# Altium schematic symbol library TIDA00792E2_AFE.SCHLIB: 95 symbols (part 2 of 2)
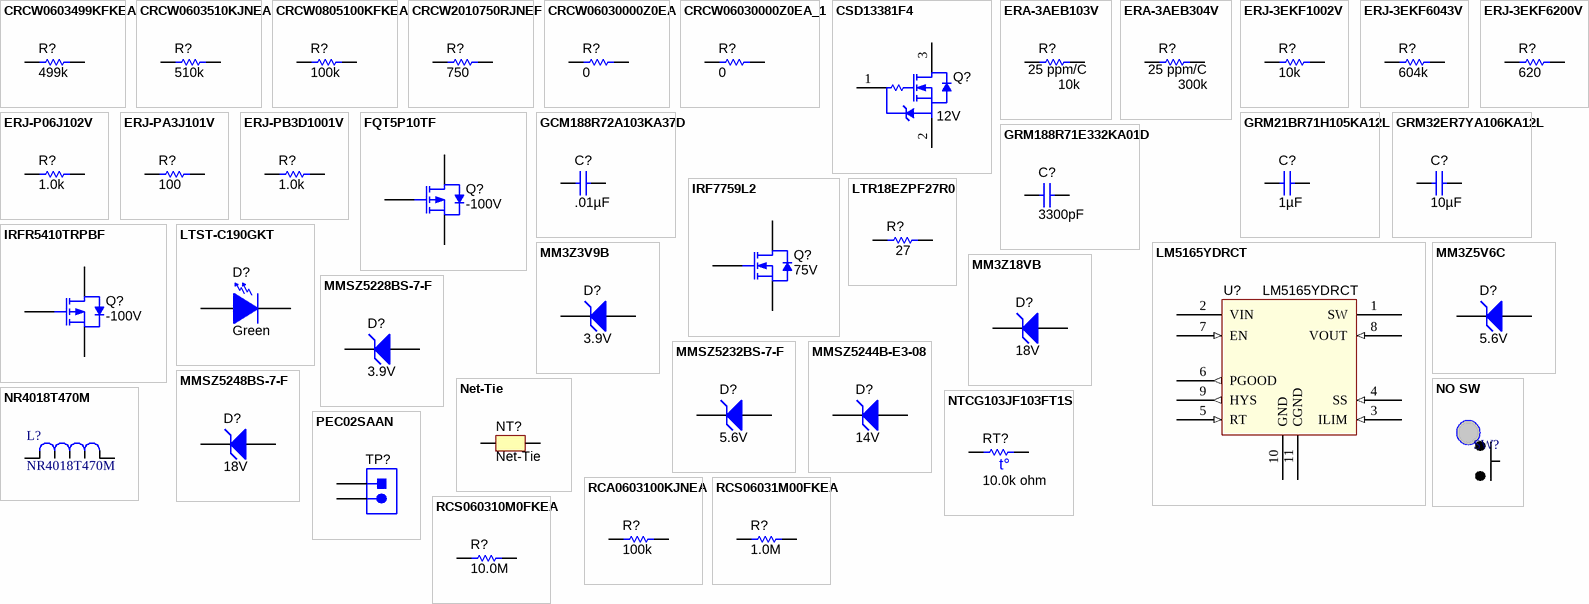
[diagram p3: symbols CRCW0603499KFKEA to RCS060310M0FKEA]

## ERJ-3EKF6043V
designator R?  ValueDisplayed: 604k  (hidden comment: ERJ-3EKF6043V)
RES SMD 604K OHM 1% 1/10W 0603; Manufacturer: Panasonic Electronic Components; CompType: Resistor; Res_ohm: 604000; Value_Code: 1k00; Tolerance_%: .1; Value2: .1W; VDC_V: 400; TempCo: 100 ppm/C; SizeArea_mm2: 1.28; SizeX_mm: 1.6; SizeY_mm: .8; SizeZ_mm: .55; EIA_Code: E24; U/M: EA; AEC Category: Q200; AEC Qualified: Y; AEC Grade: 0; SymbolVersion: 2009-05-29; Value: 604k; PartNumber: ERJ-3EKF6043V; PackageReference: 0603; RoHS: Y; Value1: 1%; Power_W: .1; MountType: SMT; Technology: Thick Film; Published: 2008-06-26; Publisher: Texas Instruments; LatestRevisionDate: 2016-06-10; ComponentLink1Description: Datasheet link; ComponentLink1URL: https://industrial.panasonic.com/cdbs/www-data/pdf/RDA0000/AOA0000C304.pdf; Supplier 1: Mouser; Supplier 2: Digi-Key; Supplier Part Number 1: 667-ERJ-3EKF6043V; Supplier Part Number 2: P604KHDKR-ND
signal-integrity model Resistor
simulation model Resistor
footprint RES 0603/1608 (Chip Resistor, 2-Leads, Body 1.60x0.80mm, IPC Medium Density)
pins: 1, 2

## ERJ-3EKF6200V
designator R?  ValueDisplayed: 620  (hidden comment: ERJ-3EKF6200V)
RES SMD 620 OHM 1% 1/10W 0603; Manufacturer: Panasonic Electronic Components; CompType: Resistor; Value: 620; Value_Code: 1k00; Tolerance_%: .1; Value2: .1W; VDC_V: 400; TempCo: 100 ppm/C; SizeArea_mm2: 1.28; SizeX_mm: 1.6; SizeY_mm: .8; SizeZ_mm: .55; EIA_Code: E24; U/M: EA; AEC Category: Q200; AEC Qualified: Y; AEC Grade: 0; SymbolVersion: 2009-05-29; PartNumber: ERJ-3EKF6200V; PackageReference: 0603; RoHS: Y; Res_ohm: 620; Value1: 1%; Power_W: .1; MountType: SMT; Technology: Thick Film; Published: 2008-06-26; Publisher: Texas Instruments; LatestRevisionDate: 2016-06-10; ComponentLink1Description: Datasheet link; ComponentLink1URL: https://industrial.panasonic.com/cdbs/www-data/pdf/RDA0000/AOA0000C304.pdf; Supplier 1: Mouser; Supplier 2: Digi-Key; Supplier Part Number 1: 667-ERJ-3EKF6200V; Supplier Part Number 2: P620HDKR-ND
signal-integrity model Resistor
simulation model Resistor
footprint RES 0603/1608 (Chip Resistor, 2-Leads, Body 1.60x0.80mm, IPC Medium Density)
pins: 1, 2

## ERJ-P06J102V
designator R?  ValueDisplayed: 1.0k  (hidden comment: ERJ-P06J102V)
RES SMD 1K OHM 0.5% 1/2W 0805; Manufacturer: Panasonic Electronic Components; CompType: Resistor; Value: 1.0k; Res_ohm: 1000; Value_Code: 1k00; Tolerance_%: 5; Value1: 5%; Power_W: .5W; VDC_V: 400; TempCo: 200 ppm/C; SizeArea_mm2: 2.5; SizeX_mm: 2; SizeY_mm: 1.25; SizeZ_mm: .7; U/M: EA; AEC Category: Q200; AEC Qualified: Y; AEC Grade: 0; SymbolVersion: 2009-05-29; PartNumber: ERJ-P06J102V; PackageReference: 0805; RoHS: Y; Value2: .5W; MountType: SMT; Technology: Thick Film; Published: 2008-06-26; Publisher: Texas Instruments; LatestRevisionDate: 2016-06-10; ComponentLink1Description: Datasheet link; ComponentLink1URL: https://industrial.panasonic.com/cdbs/www-data/pdf/RDO0000/AOA0000C331.pdf; Supplier 1: Digi-Key; Supplier Part Number 1: P1.0KADCT-ND
signal-integrity model Resistor
simulation model Resistor
footprint 2010
footprint 2010M
footprint 2010L
pins: 1, 2

## ERJ-PA3J101V
designator R?  value 100  (hidden comment: ERJ-PA3J101V)
RES SMD 100 OHM 5% 1/4W 0603; Manufacturer: Panasonic Electronic Components; CompType: Resistor; Value_Code: 100R; Tolerance_%: 5; Power_W: 0.125; Value2: 0.125W; VDC_V: 150; TempCo: 200 ppm/C; EIA_Code: E96; U/M: EA; SymbolVersion: 2009-05-29; PartNumber: ERJ-PA3J101V; PackageReference: 0603; RoHS: Y; Res_ohm: 100; Value1: 5%; MountType: SMT; Technology: Thick Film; Published: 2008-06-26; Publisher: Texas Instruments; LatestRevisionDate: 2013-01-08; ComponentLink1Description: Datasheet link; ComponentLink1URL: https://media.digikey.com/pdf/Data%20Sheets/Panasonic%20Resistors%20Thermistors%20PDFs/ERJ-PA3_Series_NPI.pdf; Supplier 1: Digi-Key; Supplier Part Number 1: P100BZDKR-ND
signal-integrity model Resistor
simulation model Resistor
footprint RES 0603/1608 (Chip Resistor, 2-Leads, Body 1.60x0.80mm, IPC Medium Density)
footprint 0805
footprint 0805M
footprint 0805L
pins: 1, 2

## ERJ-PB3D1001V
designator R?  ValueDisplayed: 1.0k  (hidden comment: ERJ-PB3D1001V)
RES SMD 1K OHM 0.5% 1/5W 0603; Manufacturer: Panasonic Electronic Components; CompType: Resistor; Value: 1.0k; Res_ohm: 1000; Value_Code: 1k00; Tolerance_%: .5; Power_W: .2W; VDC_V: 400; TempCo: 50 ppm/C; SizeArea_mm2: 1.28; SizeX_mm: 1.6; SizeY_mm: .8; SizeZ_mm: .55; EIA_Code: E24; U/M: EA; AEC Category: Q200; AEC Qualified: Y; AEC Grade: 0; SymbolVersion: 2009-05-29; PartNumber: ERJ-PB3D1001V; PackageReference: 0603; RoHS: Y; Value1: 0.5%; Value2: .2W; MountType: SMT; Technology: Thick Film; Published: 2008-06-26; Publisher: Texas Instruments; LatestRevisionDate: 2016-06-10; ComponentLink1Description: Datasheet link; ComponentLink1URL: https://industrial.panasonic.com/cdbs/www-data/pdf/RDM0000/AOA0000C328.pdf; Supplier 3: Digi-Key; Supplier Part Number 3: P20283CT-ND
signal-integrity model Resistor
simulation model Resistor
footprint RES 0603/1608 (Chip Resistor, 2-Leads, Body 1.60x0.80mm, IPC Medium Density)
pins: 1, 2

## FQT5P10TF
designator Q?  value -100V  (hidden comment: FQT5P10TF)
MOSFET P-CH -100V -1A SOT-223; Manufacturer: Fairchild/ON Semiconductor; Alternate Manufacturer: None; U/M: EA; ChType: P; VdsMax_V: -100; Value1: 1.05 ohm; Rdson45_Ohm: 1.05; Value2: 8.2 nC; QgTyp_nC: 8.2; Vgs_V: -4; IdsMax_A: -1; SymbolVersion: 2008-07-09; PartNumber: FQT5P10TF; PackageReference: SOT-223; CompType: MOSFET; RoHS: Y; MountType: SMT; Published: 2008-06-19; Publisher: Texas Instruments; LatestRevisionDate: 2013-10-21; LatestRevisionNote: Added parts.; ComponentLink1Description: Datasheet link; ComponentLink1URL: https://www.fairchildsemi.com/datasheets/FQ/FQT5P10.pdf; Supplier 1: Digi-Key; Supplier 2: Mouser; Supplier Part Number 1: FQT5P10TFCT-ND; Supplier Part Number 2: 512-FQT5P10TF
footprint SOT223
pins: 1 G, 2 S, 3 D

## GCM188R72A103KA37D
designator C?  ValueDisplayed: .01µF  (hidden comment: GCM188R72A103KA37D)
CAP CER .01μF 10% 100V X7R 0603; Manufacturer: Murata Electronics North America; Polarized: N; CompType: Capacitor; U/M: EA; Cap_F: 0.00000001; Tolerance_%: 10; Value1: Unknown; VDC_V: 100; Value2: 35V; TaMin_C: -55; TaMax_C: 125; Cap_Case: 0603; SizeArea_mm2: 1.28; SizeAreaWB_mm2: 4.68; SizeX_mm: 1.6; SizeY_mm: 0.8; AEC Category: Q200; SymbolVersion: 2008-07-09; Value: .01µF; PartNumber: GCM188R72A103KA37D; PackageReference: 0603; RoHS: Y; MountType: SMT; Technology: Ceramic; TempCo: X7R; SizeZ_mm: 0.8; Published: 2008-06-19; Publisher: Texas Instruments; LatestRevisionDate: 2016-06-14; ComponentLink1Description: Datasheet link; ComponentLink1URL: https://product.tdk.com/info/en/documents/chara_sheet/CGA4J1X7R1V225K125AE.pdf; AEC Qualified: N; AEC Grade: N/A; Supplier 1: Mouser; Supplier 2: Digi-Key; Supplier Part Number 1: 81-GCM188R72A103KA7D; Supplier Part Number 2: 490-4781-6-ND
signal-integrity model Cap
simulation model Cap
footprint CAP 0805/2012 (Chip Capacitor, 2-Leads, Body 2.00x1.20mm, IPC Medium Density)
footprint 0603M
footprint 0603L
footprint 0603_HV
footprint 0603S
pins: 1, 2

## GRM21BR71H105KA12L
designator C?  ValueDisplayed: 1µF  (hidden comment: GRM21BR71H105KA12L)
CAP, CERM, 1 µF, 50 V, +/- 10%, X7R, 0805; Manufacturer: MuRata; Polarized: N; CompType: Capacitor; Value: 1uF; U/M: EA; Cap_F: 0.000001; Tolerance_%: 10; Value1: Unknown; VDC_V: 50; Value2: 50V; TaMin_C: -55; TaMax_C: 125; Cap_Case: 0805; SymbolVersion: 2008-07-09; PartNumber: GRM21BR71H105KA12L; PackageReference: 0805; RoHS: Y; MountType: SMT; Technology: Ceramic; TempCo: X7R; Published: 2008-06-19; Publisher: Texas Instruments; LatestRevisionDate: 2015-04-28; ComponentLink1Description: Datasheet link; ComponentLink1URL: http://search.murata.co.jp/Ceramy/PnsearchViewAction.do?HnOFG=ON&HnNFG=ON&SEL_CNT=50&sLang=en&sKey=GRM21BR71H105KA12L&x=9&y=9&search=startwith; Supplier 1: Digi-Key; Supplier Part Number 1: 490-4736-1-ND; Supplier 2: Mouser; Supplier Part Number 2: 81-GRM21BR71H105KA2L; Supplier 3: Farnell; Supplier Part Number 3: 1735541
signal-integrity model Cap
simulation model Cap
footprint 0805_HV
footprint 0805
footprint 0805M
footprint 0805L
pins: 1, 2

## GRM32ER7YA106KA12L
designator C?  ValueDisplayed: 10µF  (hidden comment: GRM32ER7YA106KA12L)
CAP, CERM, 10 µF, 35 V, +/- 10%, X7R, 1210; Manufacturer: MuRata; Polarized: N; CompType: Capacitor; Value: 10uF; U/M: EA; Cap_F: 0.00001; Tolerance_%: 10; Value1: Unknown; VDC_V: 35; Value2: 35V; TaMin_C: -55; TaMax_C: 125; Cap_Case: 1210; SizeArea_mm2: 8; SizeAreaWB_mm2: 14.7; SizeX_mm: 3.2; SizeY_mm: 2.5; SizeZ_mm: 2.7; AEC Category: Q200; SymbolVersion: 2008-07-09; PartNumber: GRM32ER7YA106KA12L; PackageReference: 1210; RoHS: Y; MountType: SMT; Technology: Ceramic; TempCo: X7R; Published: 2008-06-19; Publisher: Texas Instruments; LatestRevisionDate: 2016-06-14; ComponentLink1Description: Datasheet link; ComponentLink1URL: http://search.murata.co.jp/Ceramy/PnsearchViewAction.do?HnOFG=ON&HnNFG=ON&SEL_CNT=50&sLang=en&sKey=GRM32ER7YA106KA12L&x=9&y=9&search=startwith; Supplier 1: Digi-Key; Supplier Part Number 1: 490-5314-1-ND; Supplier 2: Mouser; Supplier Part Number 2: 81-GRM32ER7YA106KA2L; Supplier 3: Farnell; Supplier Part Number 3: 1735537; AEC Qualified: ?
signal-integrity model Cap
simulation model Cap
footprint 1210_270
footprint 1210_270M
footprint 1210_270L
pins: 1, 2

## GRM188R71E332KA01D
designator C?  ValueDisplayed: 3300pF  (hidden comment: GRM188R71E332KA01D)
CAP, CERM, 3300pF, 25V, +/-10%, X7R, 0603; Manufacturer: MuRata; Polarized: N; CompType: Capacitor; U/M: EA; Cap_F: 0.0000000033; Tolerance_%: 10; Value1: Unknown; VDC_V: 25; TaMin_C: -55; TaMax_C: 125; Cap_Case: 0603; SymbolVersion: 2008-07-09; Value: 3300pF; PartNumber: GRM188R71E332KA01D; PackageReference: 0603; RoHS: Y; Value2: 25V; MountType: SMT; Technology: Ceramic; TempCo: X7R; Published: 2008-06-19; Publisher: Texas Instruments; LatestRevisionDate: 2013-10-27; ComponentLink1Description: Datasheet link; ComponentLink1URL: http://search.murata.co.jp/Ceramy/PnsearchViewAction.do?HnOFG=ON&HnNFG=ON&SEL_CNT=50&sLang=en&sKey=GRM188R71E332KA01D&x=9&y=9&search=startwith; Supplier 1: Digi-Key; Supplier Part Number 1: GRM188R71E332KA01D-ND; Supplier 2: Mouser; Supplier Part Number 2: 81-GRM18R71E332KA01D
signal-integrity model Cap
simulation model Cap
footprint CAP 0603/1608 (Chip Capacitor, 2-Leads, Body 1.60x0.80mm, IPC Medium Density)
footprint 0603M
footprint 0603L
footprint 0603_HV
pins: 1, 2

## IRF7759L2
designator Q?  value 75V  (hidden comment: IRF7759L2)
N-Channel 75V 26A (Ta), 375A (Tc) 3.3W (Ta), 125W (Tc) Surface Mount DIRECTFET L8; Manufacturer: Infineon Technologies; Alternate Manufacturer: None; CompType: MOSFET; U/M: EA; ChType: N; VdsMax_V: 75; Value1: .0018 ohm; Rdson_mOhm: 1.8; Value2: 200 nC; QgTyp_nC: 200; Vgs_V: 20; IdsMax_A: 260; SymbolVersion: 2009-09-19; PartNumber: IRF7759L2; PackageReference: L8; RoHS: Y; MountType: SMT; Published: 2009-09-19; Publisher: Infineon Technologies; LatestRevisionDate: 2009-09-19; LatestRevisionNote: Added parts.; ComponentLink1Description: Datasheet link; ComponentLink1URL: https://www.infineon.com/dgdl/irf7759l2pbf.pdf?fileId=5546d462533600a40153560478171cb0; Supplier 1: Digi-Key; Supplier Part Number 1: IRF7759L2TRPBFCT-ND; Supplier 2: Mouser; Supplier Part Number 2: 942-IRF7759L2TRPBF; Supplier 3: Farnell; Supplier Part Number 3: 91Y4755
footprint DIRECTFET L8
pins: 1 G, 2 S, 3 D

## IRFR5410TRPBF
designator Q?  value -100V  (hidden comment: IRFR5410TRPBF)
MOSFET P-CH 100V 13A DPAK; Manufacturer: Infineon Technologies; Alternate Manufacturer: None; U/M: EA; ChType: P; VdsMax_V: -100; Value1: .205 ohm; Rdson45_Ohm: .205; Value2: 58 nC; QgTyp_nC: 58; Vgs_V: -20; IdsMax_A: -13; SymbolVersion: 2008-07-09; PartNumber: IRFR5410TRPBF; PackageReference: TO-252-3; CompType: MOSFET; RoHS: Y; MountType: SMT; Published: 2008-06-19; Publisher: Texas Instruments; LatestRevisionDate: 2013-10-21; LatestRevisionNote: Added parts.; ComponentLink1Description: Datasheet link; ComponentLink1URL: https://www.infineon.com/dgdl/irfr5410pbf.pdf?fileId=5546d462533600a4015356356f622107; Supplier 1: Digi-Key; Supplier 2: Mouser; Supplier Part Number 1: IRFR5410PBFDKR-ND; Supplier Part Number 2: 942-IRFR5410TRPBF
footprint D-PAK (TO-252-3)
pins: 1 G, 2 S, 3 D

## LM5165YDRCT
designator U?
IC REG BUCK 3.3V 0.15A 10VSON; Manufacturer: Texas Instruments; SymbolCreator: x0208325; U/M: EA; SymbolVersion: 2013-11-18; PartNumber: LM5165YDRCT; PackageReference: 10-VSON; MountType: SMT; ComponentLink1Description: Datasheet Link; ComponentLink1URL: http://www.ti.com/lit/ds/symlink/lm5165.pdf; CompType: IC; RoHS: Y; Publisher: Texas Instruments; LatestRevisionDate: 2016-04-08; Supplier 1: Mouser; Supplier 2: Digi-Key; Supplier Part Number 1: 595-LM5165YDRCT; Supplier Part Number 2: 296-44069-1-ND
pins: 1 SW (power) "Connect to the switching side of the power inductor", 2 VIN (power) "Regulator supply input pin to high-side power MOSFET and internal bias rail LDO", 3 ILIM (in) "Programming pin for current limit", 4 SS (in) "Programming pin for the soft-start time", 5 RT (in) "Mode selection and on-time programming pin for Constant On-Time (COT) control", 6 PGOOD (out) "Power Good output flag pin", 7 EN (in) "Input pin of the precision enable / UVLO comparator", 8 VOUT (in) "Feedback input to voltage regulation loop", 9 HYS (out) "Drain of an internal NFET that is turned off when the EN input is greater than the EN threshold", 10 GND (power), 11 CGND (power) "Center Pad Ground"
1 alternate drawing of the same symbol

## LTR18EZPF27R0
designator R?  ValueDisplayed: 27  (hidden comment: LTR18EZPF27R0)
RES SMD 27 OHM 1% 3/4W 1206 WIDE; Manufacturer: Rohm Semiconductor; CompType: Resistor; Value: 27; Tolerance_%: 1; Power_W: .75; Value2: .75W; VDC_V: 200; TempCo: 200 ppm/C; EIA_Code: E24; U/M: EA; SymbolVersion: 2009-05-29; PartNumber: LTR18EZPF27R0; PackageReference: 1206; RoHS: Y; Value1: 1%; MountType: SMT; Technology: Thick Film; LatestRevisionDate: 2015-04-13; ComponentLink1Description: Datasheet link; ComponentLink1URL: http://www.rohm.com/web/global/datasheet/LTR100JZPD/ltr-e; Supplier 1: Digi-Key; Supplier Part Number 1: RHM27YCT-ND; Published: 2008-06-26; Res_ohm: 27; Value_Code: 27
signal-integrity model Resistor
simulation model Resistor
footprint RES 1206/3216 (Chip Resistor, 2-Leads, Body 3.13x1.55mm, IPC Medium Density)
pins: 1, 2

## LTST-C190GKT
designator D?  value Green  (hidden comment: LTST-C190GKT)
LED, Green, SMD; Manufacturer: Lite-On; Vf_V: 2.1; Value2: 2.1V; Io_A: 0.02; Power_TotalModule: 0.1; Value1: 0.1W; U/M: EA; ComponentLink1URL: https://sps06.itg.ti.com/sites/KMS/crossdivteams/altium/docs/ComponentDatasheets/LTST-C190GKT.pdf; SymbolVersion: 2008-12-08; PackageReference: 1.6x0.8x0.8mm; PartNumber: LTST-C190GKT; ComponentLink1Description: Datasheet link; CompType: LED; MountType: SMT; RoHS: Y; Type: ?; Color: green; Published: 2008-07-11; Publisher: Texas Instruments; LatestRevisionDate: 2012-12-27; LatestRevisionNote: Updated supplier queries; Supplier 1: Digi-Key; Supplier Part Number 1: 160-1183-1-ND; Supplier 2: Mouser; Supplier Part Number 2: 859-LTST-C190GKT
signal-integrity model Diode
footprint LED_LTST-C190
pins: 1 A, 2 K

## MM3Z3V9B
designator D?  value 3.9V  (hidden comment: MM3Z3V9B)
DIODE ZENER 3.9V 200MW SOD323F; Manufacturer: Fairchild/ON Semiconductor; SymbolCreator: a0412235; U/M: EA; Power_W: 0.2; Vz_V: 3.9; Value1: 0.2W; RJA_CperW: 595; AEC Category: Q101; SymbolVersion: 2010-08-25; PartNumber: MM3Z3V9B; PackageReference: SOD-323F; CompType: Zener; Vr_V: N/A; MountType: SMT; RoHS: Y; ComponentLink1Description: Datasheet link; ComponentLink1URL: https://www.fairchildsemi.com/datasheets/MM/MM3Z10VB.pdf; Published: 2008-10-08; Publisher: Texas Instruments; LatestRevisionDate: 2016-04-07; LatestRevisionNote: Updated Supplier Data; AEC Qualified: ?; Supplier 1: Digi-Key; Supplier Part Number 1: MM3Z3V9BDKR-ND
signal-integrity model Diode
footprint SOD323F (SODFL, 2-Leads, Body 1.25x2.50mm, IPC Medium Density)
pins: 1 K, 2 A

## MM3Z5V6C
designator D?  value 5.6V  (hidden comment: MM3Z5V6C)
Diode, Zener, 5.6V, 200mW, SOD-323FL; Manufacturer: ON Semiconductor; U/M: EA; Power_W: 0.2; Vz_V: 5.6; Value1: 0.2W; RJA_CperW: 595; CompType: Zener; SymbolVersion: 2010-08-25; PartNumber: MM3Z5V6C; PackageReference: SOD-323FL; Vr_V: N/A; MountType: SMD; RoHS: Y; ComponentLink1Description: Datasheet link; ComponentLink1URL: http://www.onsemi.com/pub/Collateral/MM3Z9V1C-D.pdf; Published: 2008-10-08; Publisher: Texas Instruments; LatestRevisionDate: 2013-02-11; LatestRevisionNote: Updated Supplier Data; Supplier 1: Digi-Key; Supplier Part Number 1: MM3Z5V6CCT-ND; Supplier 2: Mouser; Supplier Part Number 2: 512-MM3Z5V6C
signal-integrity model Diode
footprint SOD323FL
pins: 1 K, 2 A

## MM3Z18VB
designator D?  value 18V  (hidden comment: MM3Z18VB)
DIODE ZENER 18V 200MW SOD323F; Manufacturer: Fairchild/ON Semiconductor; U/M: EA; Power_W: 0.2; Vz_V: 18; Value1: 0.2W; RJA_CperW: 350; SymbolCreator: a0412235; AEC Category: Q101; CompType: Zener; SymbolVersion: 2010-08-25; PartNumber: MM3Z18VB; PackageReference: SOD-323F; Vr_V: N/A; MountType: SMT; RoHS: Y; ComponentLink1Description: Datasheet link; ComponentLink1URL: https://www.fairchildsemi.com/datasheets/MM/MM3Z10VB.pdf; Published: 2008-10-08; Publisher: Texas Instruments; LatestRevisionDate: 2016-04-07; LatestRevisionNote: Updated Supplier Data; AEC Qualified: ?; Supplier 1: Digi-Key; Supplier 2: Newark; Supplier 3: Mouser; Supplier Part Number 1: MM3Z18VBDKR-ND; Supplier Part Number 2: 52M5724; Supplier Part Number 3: 512-MM3Z18VB
signal-integrity model Diode
footprint SOD323F (SODFL, 2-Leads, Body 1.25x2.50mm, IPC Medium Density)
pins: 1 K, 2 A

## MMSZ5228BS-7-F
designator D?  value 3.9V  (hidden comment: MMSZ5228BS-7-F)
Diode, Zener, 3.9 V, 200 mW, SOD-323; Manufacturer: Diodes Inc.; SymbolCreator: a0412235; U/M: EA; Power_W: 0.2; Vz_V: 3.9; Value1: 0.2W; RJA_CperW: 350; AEC Category: Q101; SymbolVersion: 2010-08-25; PartNumber: MMSZ5228BS-7-F; PackageReference: SOD-323; CompType: Zener; Vr_V: N/A; MountType: SMT; RoHS: Y; ComponentLink1Description: Datasheet link; ComponentLink1URL: http://www.diodes.com/datasheets/ds31038.pdf; Published: 2008-10-08; Publisher: Texas Instruments; LatestRevisionDate: 2016-04-07; LatestRevisionNote: Updated Supplier Data; Supplier 1: Digi-Key; Supplier Part Number 1: MMSZ5228BS-FDICT-ND; Supplier 2: Mouser; Supplier Part Number 2: 621-MMSZ5228BS-F; AEC Qualified: ?
signal-integrity model Diode
footprint sod-323
pins: 1 K, 2 A

## MMSZ5232BS-7-F
designator D?  value 5.6V  (hidden comment: MMSZ5232BS-7-F)
Diode, Zener, 5.6V, 200mW, SOD-323; Manufacturer: Diodes Inc.; U/M: EA; Power_W: 0.2; Vz_V: 5.6; Value1: 0.2W; RJA_CperW: 350; CompType: Zener; SymbolVersion: 2010-08-25; PartNumber: MMSZ5232BS-7-F; PackageReference: SOD-323; Vr_V: N/A; MountType: SMT; RoHS: Y; ComponentLink1Description: Datasheet link; ComponentLink1URL: http://www.diodes.com/datasheets/ds31038.pdf; Published: 2008-10-08; Publisher: Texas Instruments; LatestRevisionDate: 2013-02-11; LatestRevisionNote: Updated Supplier Data; Supplier 1: Digi-Key; Supplier Part Number 1: MMSZ5232BS-FDICT-ND; Supplier 2: Mouser; Supplier Part Number 2: 621-MMSZ5232BS-F
signal-integrity model Diode
footprint sod-323
pins: 1 K, 2 A

## MMSZ5244B-E3-08
designator D?  value 14V  (hidden comment: MMSZ5244B-E3-08)
DIODE ZENER 14V 5% 500MW SOD123; Manufacturer: Vishay Semiconductor Diodes Division; SymbolCreator: a0412235; U/M: EA; Power_W: .5; Vz_V: 14; Value1: 0.51W; RJA_CperW: 150; AEC Category: Q101; SymbolVersion: 2010-08-25; PartNumber: MMSZ5244B-E3-08; PackageReference: SOD-123; CompType: Zener; Vr_V: N/A; MountType: SMT; RoHS: Y; ComponentLink1Description: Datasheet link; ComponentLink1URL: http://www.vishay.com/docs/85774/mmsz5225.pdf; Published: 2008-10-08; Publisher: Texas Instruments; LatestRevisionDate: 2016-01-12; LatestRevisionNote: Updated Supplier Data; AEC Qualified: ?; Supplier 1: Arrow; Supplier 2: Digi-Key; Supplier 3: Mouser; Supplier Part Number 1: MMSZ5244B-E3-08; Supplier Part Number 2: MMSZ5244B-E3-08GIDKR-ND; Supplier Part Number 3: 78-MMSZ5244B-E3-08
signal-integrity model Diode
footprint SOD-123 (SOD, 2-Leads, Body 1.55x3.70mm, IPC Medium Density)
pins: 1 K, 2 A

## MMSZ5248BS-7-F
designator D?  value 18V  (hidden comment: MMSZ5248BS-7-F)
Diode, Zener, 18 V, 200 mW, SOD-323; Manufacturer: Diodes Inc.; SymbolCreator: a0412235; U/M: EA; Power_W: 0.2; Vz_V: 18; Value1: 0.2W; RJA_CperW: 350; AEC Category: Q101; SymbolVersion: 2010-08-25; PartNumber: MMSZ5248BS-7-F; PackageReference: SOD-323; CompType: Zener; Vr_V: N/A; MountType: SMT; RoHS: Y; ComponentLink1Description: Datasheet link; ComponentLink1URL: http://www.diodes.com/datasheets/ds31038.pdf; Published: 2008-10-08; Publisher: Texas Instruments; LatestRevisionDate: 2016-01-12; LatestRevisionNote: Updated Supplier Data; AEC Qualified: ?; Supplier 1: Digi-Key; Supplier 2: Mouser; Supplier 3: Arrow; Supplier Part Number 1: MMSZ5248BS-FDIDKR-ND; Supplier Part Number 2: 621-MMSZ5248BS-F; Supplier Part Number 3: MMSZ5248BS-7-F**MULT1
signal-integrity model Diode
footprint sod-323
pins: 1 K, 2 A

## Net-Tie
designator NT?  (net tie, no BOM)
Single point connection between nets.; SymbolCreator: codlsc; SymbolVersion: 2009-07-01; MountType: SMT; PackageReference: N/A; Publisher: Texas Instruments; LatestRevisionDate: 2015-10-18; LatestRevisionNote: Added Alternate PartNumber and Alternate Manufacturer parameters to appropriate components.
footprint Net-Tie_10mil (10mil net tie, no solder mask opening, no solder paste)
footprint NetTie_1206 (1206 pads tied by 10mil copper trace which can be cut.  Part can be placed on pads.)
footprint Net-Tie_0805_HV
footprint NetTie_1206_NoOverlay (1206 pads tied by 10mil copper trace which can be cut.  Part can be placed on pads.)
footprint Net-Tie_0805_HV_NoOverlay (0805_HV pads tied by 10mil copper trace which can be cut.  An 0805 part can be placed on pads.)
footprint Net-Tie_10milWide_30milLong
footprint Net-Tie_20milWide_60milLong
footprint NetTie_0603
footprint NetTie_0402
footprint Net-Tie_50milWide_30milLong
pins: 1, 2

## NO SW
designator SW?
NO Momentary Switch Generic

## NR4018T470M
designator L?
INDUCTOR 47u HENRY 20%
footprint IND NR4018T470M (Chip Inductor, 2-Leads, Body 1.00x0.50mm, IPC High Density)
pins: 1, 2

## NTCG103JF103FT1S
designator RT?  value 10.0k ohm  (hidden comment: NTCG103JF103FT1S)
NTC Thermistor 10k 1% 0402 (1005 Metric); Manufacturer: TDK Corporation; CompType: ThermistorNTC; Tolerance_%: 1; Power_W: 0.125; TaMin_C: -40; TaMax_C: 150; U/M: EA; ComponentLink1URL: https://product.tdk.com/info/en/catalog/datasheets/503022/tpd_automotive_ntc-thermistor_ntcg_en.pdf; PackageReference: 0402; SymbolVersion: 2008-11-25; PartNumber: NTCG103JF103FT1S; ComponentLink1Description: Datasheet link; Series: NTCG; MountType: SMT; RoHS: Y; Published: 2009-09-22; Publisher: Texas Instruments; LatestRevisionDate: 2013-08-16; Supplier 1: Digi-Key; Supplier 2: Mouser; Supplier Part Number 1: 445-174506-1-ND; Supplier Part Number 2: 810-NTCG103JF103FT1S
footprint NTC 0402/1005 (Chip Thermistor, 2-Leads, Body 1.00x0.50mm, IPC Medium Density)
pins: 1, 2
text: t°

## PEC02SAAN
designator TP?  (value not drawn)
Header, 100mil, 2x1, Tin, TH; Manufacturer: Sullins Connector Solutions; SymbolCreator: a0412235; Pitch_mm: 2.54; Gender: Male; Shrouded: N; Row_Count: 1; Current_A: 3; Voltage_V: 1800; Cert_UL: Y; SymbolVersion: 2013-10-31; PartNumber: PEC02SAAN; PackageReference: Header, 2 PIN, 100mil, Tin; ClassName: Header; CompType: Header; RoHS: Y; MountType: TH; ComponentLink1Description: Datasheet URL; ComponentLink1URL: http://www.sullinscorp.com/catalogs/77_PAGE108-109_.100_MALE_HDR.pdf; Orientation: Vertical; PinCount: 2; ContactFinish: Tin; Color: Black; Publisher: Texas Instruments; LatestRevisionDate: 2016-07-21; Supplier 1: Digi-Key; Supplier Part Number 1: S1012E-02-ND
footprint CONN_PEC02SAAN
pins: 1, 2
1 alternate drawing of the same symbol

## RCA0603100KJNEA
designator R?  ValueDisplayed: 100k  (hidden comment: RCA0603100KJNEA)
RES SMD 100K OHM 5% 1/10W 0603; Manufacturer: Vishay-Dale; CompType: Resistor; Res_ohm: 100000; Tolerance_%: 5; Power_W: 0.1; Value2: 0.1W; VDC_V: 75; TempCo: 200 ppm/C; EIA_Code: E24; U/M: EA; AEC Category: Q200; SymbolVersion: 2009-05-29; Value: 100k; PartNumber: RCA0603100KJNEA; PackageReference: 0603; RoHS: Y; Value_Code: 100k; Value1: 5%; MountType: SMT; Technology: Thick Film; Published: 2008-06-26; Publisher: Texas Instruments; LatestRevisionDate: 2016-04-07; ComponentLink1Description: Datasheet link; ComponentLink1URL: http://www.vishay.com/docs/20037/rcae3.pdf; AEC Qualified: ?; Supplier 1: Digi-Key; Supplier Part Number 1: 541-2215-6-ND
signal-integrity model Resistor
simulation model Resistor
footprint RES 0603/1608 (Chip Resistor, 2-Leads, Body 1.60x0.80mm, IPC Medium Density)
pins: 1, 2

## RCS06031M00FKEA
designator R?, comment ValueDisplayed: 1.0M  (hidden comment: CRCW06031M00JNEA)
RES SMD 1M OHM 1% 1/4W 0603; Manufacturer: Vishay-Dale; CompType: Resistor; Value: 1.0Meg; Res_ohm: 1000000; Value_Code: 1M00; Tolerance_%: 5; Power_W: 0.25; Value2: 0.25W; VDC_V: 75; TempCo: 200 ppm/C; EIA_Code: E24; U/M: EA; AEC Category: Q200; SymbolVersion: 2009-05-29; PartNumber: CRCW06031M00JNEA; PackageReference: 0603; RoHS: Y; Value1: 1%; MountType: SMT; Technology: Thick Film; Published: 2008-06-26; Publisher: Texas Instruments; LatestRevisionDate: 2016-04-07; ComponentLink1Description: Datasheet link; ComponentLink1URL: http://www.vishay.com/docs/20065/rcse3.pdf; AEC Qualified: ?; Supplier 1: Digi-Key; Supplier Part Number 1: P10.0KHDKR-ND; Supplier 2: Mouser; Supplier Part Number 2: 71-RCS06031M00FKEA
signal-integrity model Resistor
simulation model Resistor
footprint RES 0603/1608 (Chip Resistor, 2-Leads, Body 1.60x0.80mm, IPC Medium Density)
footprint 0603M
footprint 0603L
footprint 0603_HV
footprint 0603S
pins: 1, 2

## RCS060310M0FKEA
designator R?  ValueDisplayed: 10.0M  (hidden comment: RCS060310M0FKEA)
RES SMD 10M OHM 1% 1/4W 0603; Manufacturer: Vishay-Dale; CompType: Resistor; Value: 10.0Meg; Res_ohm: 10000000; Value_Code: 10M0; Tolerance_%: 1; Power_W: 0.25; Value2: 0.25W; VDC_V: 75; TempCo: 100 ppm/C; EIA_Code: E96; U/M: EA; AEC Category: Q200; SymbolVersion: 2009-05-29; PartNumber: RCS060310M0FKEA; PackageReference: 0603; RoHS: Y; Value1: 1%; MountType: SMT; Technology: Thick Film; Published: 2008-06-26; Publisher: Texas Instruments; LatestRevisionDate: 2016-04-07; ComponentLink1Description: Datasheet link; ComponentLink1URL: http://www.vishay.com/docs/20065/rcse3.pdf; AEC Qualified: ?; Supplier 1: Digi-Key; Supplier 2: Mouser; Supplier Part Number 1: 541-2804-6-ND; Supplier Part Number 2: 71-RCS060310M0FKEA
signal-integrity model Resistor
simulation model Resistor
footprint RES 0603/1608 (Chip Resistor, 2-Leads, Body 1.60x0.80mm, IPC Medium Density)
footprint 0603M
footprint 0603L
footprint 0603_HV
footprint 0603S
pins: 1, 2

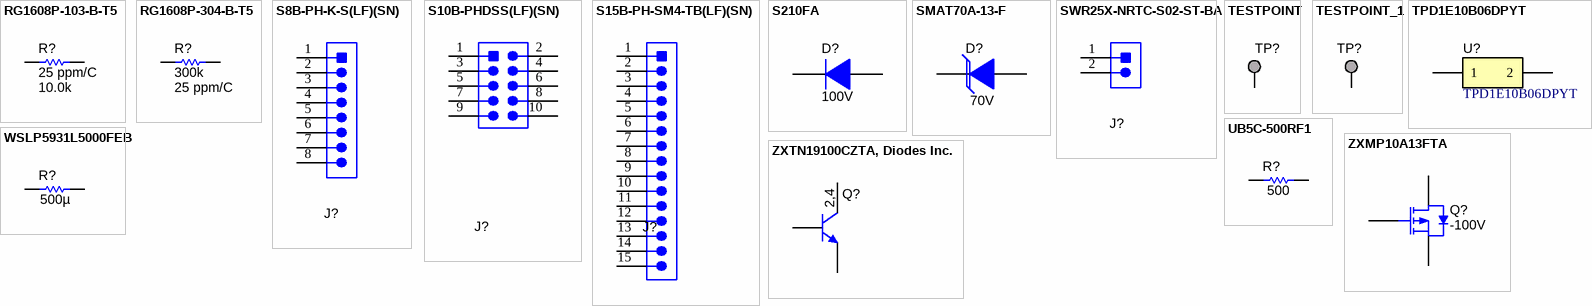
[diagram p2: symbols RG1608P-103-B-T5 to ZXTN19100CZTA, Diodes Inc.]

## RG1608P-103-B-T5
designator R?  TempCo: 25 ppm/C  ValueDisplayed: 10.0k  (hidden comment: RG1608P-103-B-T5)
RES, 10.0 k, 0.1%, 0.1 W, 0603; Manufacturer: Susumu Co Ltd; CompType: Resistor; Value: 10.0k; Res_ohm: 10000; Value_Code: 10k0; Tolerance_%: 0.1; Value2: 0.1W; VDC_V: 75; EIA_Code: E192; U/M: EA; AEC Category: Q200; SymbolVersion: 2009-05-29; PartNumber: RG1608P-103-B-T5; PackageReference: 0603; RoHS: Y; Value1: 0.1%; Power_W: 0.1; MountType: SMT; Technology: Metal Film; Published: 2008-06-26; Publisher: Texas Instruments; LatestRevisionDate: 2016-04-07; ComponentLink1Description: Datasheet link; ComponentLink1URL: http://www.susumu.co.jp/english/pdf/products-j01-01.pdf; Supplier 1: Digi-Key; Supplier Part Number 1: RG16P10.0KBCT-ND; Supplier 2: Mouser; Supplier Part Number 2: 754-RG1608P-103-B-T5; Supplier 3: Farnell; Supplier Part Number 3: 1797079; AEC Qualified: ?
signal-integrity model Resistor
simulation model Resistor
footprint 0603
footprint 0603M
footprint 0603L
footprint 0603_HV
footprint 0603S
pins: 1, 2

## RG1608P-304-B-T5
designator R?  value 300k  TempCo: 25 ppm/C  (hidden comment: RG1608P-304-B-T5)
RES, 300k ohm, 0.1%, 0.1W, 0603; Manufacturer: Susumu Co Ltd; CompType: Resistor; Res_ohm: 300000; Tolerance_%: 0.1; VDC_V: 75; U/M: EA; SymbolVersion: 2009-05-29; PartNumber: RG1608P-304-B-T5; PackageReference: 0603; RoHS: Y; Value_Code: 300k; Value1: 0.1%; Power_W: 0.1; Value2: 0.1W; MountType: SMT; Technology: Metal Film; Published: 2008-06-26; Publisher: Texas Instruments; LatestRevisionDate: 2013-10-22; ComponentLink1Description: Datasheet link; ComponentLink1URL: http://www.susumu.co.jp/english/pdf/products-j01-01.pdf; Supplier 1: Digi-Key; Supplier Part Number 1: RG16P300KBCT-ND; Supplier 2: Mouser; Supplier Part Number 2: 754-RG1608P-304-B-T5; Supplier 3: Farnell; Supplier Part Number 3: 1797155
signal-integrity model Resistor
simulation model Resistor
footprint 0603
footprint 0603M
footprint 0603L
footprint 0603_HV
pins: 1, 2

## S8B-PH-K-S(LF)(SN)
designator J?  (value not drawn)
CONN HEADER PH SIDE 8POS 2MM; Manufacturer: JST Sales America Inc.; CompType: Terminal Block; U/M: EA; SymbolVersion: 2013-12-22; PartNumber: S8B-PH-K-S(LF)(SN); PackageReference: 17.90x7.6x4.8 mm; RoHS: Y; MountType: TH; ComponentLink1Description: Datasheet Link; ComponentLink1URL: http://www.jst-mfg.com/product/pdf/eng/ePH.pdf; Publisher: Texas Instruments; LatestRevisionDate: 2015-02-18; Supplier 1: Digi-Key; Supplier Part Number 1: 455-1725-ND
footprint JST S8B-PH-K-S (CONN HEADER PH SIDE 8POS 2MM)
pins: 1, 2, 3, 4, 5, 6, 7, 8

## S10B-PHDSS(LF)(SN)
designator J?  (value not drawn)
CONN HEADER PHD SIDE 10POS 2ROW 2MM; Manufacturer: JST Sales America Inc.; CompType: Terminal Block; U/M: EA; SymbolVersion: 2013-12-22; PartNumber: S10B-PHDSS(LF)(SN); PackageReference: 11.9x9.5x5.0 mm; RoHS: Y; MountType: TH; ComponentLink1Description: Datasheet Link; ComponentLink1URL: http://www.jst-mfg.com/product/pdf/eng/ePHD.pdf; Publisher: Texas Instruments; LatestRevisionDate: 2015-02-18; Supplier 1: Digi-Key; Supplier Part Number 1: 455-1775-ND
footprint JST S10B-PHDSS (CONN HEADER PHD SIDE 10POS 2ROW 2MM)
pins: 1, 2, 3, 4, 5, 6, 7, 8, 9, 10

## S15B-PH-SM4-TB(LF)(SN)
designator J?  (value not drawn)
CONN HEADER PH SIDE 15POS 2MM; Manufacturer: JST Sales America Inc.; CompType: Terminal Block; U/M: EA; SymbolVersion: 2013-12-22; PartNumber: S15B-PH-SM4-TB(LF)(SN); PackageReference: 33.9x7.6x5.5 mm; RoHS: Y; MountType: SMT; ComponentLink1Description: Datasheet Link; ComponentLink1URL: http://www.jst-mfg.com/product/pdf/eng/ePH.pdf; Publisher: Texas Instruments; LatestRevisionDate: 2015-02-18; Supplier 1: Digi-Key; Supplier Part Number 1: 455-1761-1-ND
footprint JST S15B-PH-SM4-TB
pins: 1, 2, 3, 4, 5, 6, 7, 8, 9, 10, 11, 12, 13, 14, 15

## S210FA
designator D?  value 100V  (hidden comment: S210FA)
DIODE SCHOTTKY 100V 2A SOD123FA; Manufacturer: Fairchild/ON Semiconductor; U/M: EA; Vf_V: .8; Io_A: 2; Vr_V: 100; Value2: .8V; TJmax_C: 150; Type: Ultrafast; ComponentLink1URL: https://www.fairchildsemi.com/datasheets/S2/S210FA.pdf; SymbolVersion: 2008-12-08; PackageReference: SOD-123FA; PartNumber: S210FA; ComponentLink1Description: Datasheet link; CompType: Diode; MountType: SMT; RoHS: Y; Value1: 2A; Published: 2008-06-26; Publisher: Texas Instruments; LatestRevisionDate: 2013-10-23; Supplier 1: Digi-Key; Supplier 2: Mouser; Supplier Part Number 1: S210FADKR-ND; Supplier Part Number 2: 512-S210FA
signal-integrity model Diode
simulation model 1N4148W
footprint SOD123FA
pins: 1 K, 2 A

## SMAT70A-13-F
designator D?  value 70V  (hidden comment: SMAT70A-13-F)
TVS DIODE 70VWM 100VC SMA; Manufacturer: Diodes Inc.; U/M: EA; Vc_V: 100; Ipp_A: 3.5; Value1: 3.5A; Vbr_V: 77.8; Value2: 77.8V; TJmax_C: 150; Vso_V: 70; Ppp_W: 400; Value3: 100V; ComponentLink1URL: https://www.diodes.com/assets/Datasheets/ds30213.pdf; SymbolVersion: 2008-12-08; PackageReference: DO-214AC; PartNumber: SMAT70A-13-F; ComponentLink1Description: Datasheet link; CompType: Diode; MountType: SMT; RoHS: Y; Type: TVS; Published: 2008-06-26; Publisher: Texas Instruments; LatestRevisionDate: 2013-10-23; Supplier 1: Digi-Key; Supplier 2: Mouser; Supplier Part Number 1: SMAT70A-FDIDKR-ND; Supplier Part Number 2: 621-SMAT70A-13-F
signal-integrity model Diode
simulation model 1N4148W
footprint DO214AC SMA (Molded Diode, 2-Leads, Body 4.30x2.60mm, IPC Medium Density)
pins: 1 K, 2 A

## SWR25X-NRTC-S02-ST-BA
designator J?  (value not drawn)
HEADER HDR .100" SNGL PCB 2POS F-LOCK; Manufacturer: Sullins Connector Solutions; SymbolCreator: a0412235; Pitch_mm: 2.54; Shrouded: Y; SymbolVersion: 2013-08-30; PartNumber: SWR25X-NRTC-S02-ST-BA; PackageReference: 2x1 R/A Header; CompType: Header; RoHS: Y; MountType: TH; ComponentLink1Description: Datasheet URL; ComponentLink1URL: https://media.digikey.com/PDF/Data%20Sheets/Sullins%20PDFs/SWR25X-NRTC-Sxx-ST-BA.pdf; PinCount: 2; Publisher: Texas Instruments; LatestRevisionDate: 2016-07-20; Supplier 1: Digi-Key; Supplier Part Number 1: S9407-ND
footprint SULLINS NRTC-S02
pins: 1, 2

## TESTPOINT
designator TP?  (value not drawn)  (no BOM)
TEST POINT.  No entry in BOM.; SymbolVersion: 2010-10-20; CompType: Testpoint; PackageReference: N/A; Publisher: Texas Instruments; LatestRevisionDate: 2015-10-18; LatestRevisionNote: Added Alternate PartNumber and Alternate Manufacturer parameters to appropriate components.
footprint TESTPOINT
footprint TP_VIA_018RND008
footprint TP_VIA_060RND040
footprint TP_25MIL-SMT
footprint TP_50MIL-25MILHOLE
footprint TP_60MIL-SMT
pins: 1

## TESTPOINT_1
designator TP?, comment TESTPOINT  (value not drawn)  (no BOM)
TEST POINT.  No entry in BOM.; SymbolVersion: 2010-10-20; CompType: Testpoint; PackageReference: N/A; Publisher: Texas Instruments; LatestRevisionDate: 2015-10-18; LatestRevisionNote: Added Alternate PartNumber and Alternate Manufacturer parameters to appropriate components.
footprint TESTPOINT
footprint TP_VIA_018RND008
footprint TP_VIA_060RND040
footprint TP_25MIL-SMT
footprint TP_50MIL-25MILHOLE
footprint TP_60MIL-SMT
pins: 1

## TPD1E10B06DPYT
designator U?
ESD Protection in 0402 Package with 10 pF Capacitance and 6 V Breakdown, 1 Channel, -40 to +125 degC, 2-pin X2SON (DPY); Manufacturer: Texas Instruments; Alternate PartNumber: Equivalent; Breakdown Voltage(Min)(V): 6; Eco-Plan: TBD; IEC 61000-4-2 Air-Gap(+/- kV): 30; IO Capacitance(Typ)(pF): 10; SubFamily: ESD Solution; DatasheetVersion: SLLSEB1; PackageVersion: revA, Apr-2010; PackageReference: DPY0002A; PackageDescription: 2-Pin Plastic Small Outline No-Lead 1.0 x 0.6 x 0.4 mm Body; Supplier 1: Mouser; Supplier Part Number 1: N/A; IEC 61000-4-2 Contact(+/- kV): 30; IO Leakage Current(nA): 10; MountType: SMT; PartNumber: TPD1E10B06DPYT; ComponentLink1Description: Datasheet; ComponentLink1URL: http://www.ti.com/general/docs/lit/getliterature.tsp?genericPartNumber=TPD1E10B06&fileType=pdf; ComponentLink2Description: URL Link1; ComponentLink2URL: SamplesURL:http://www.ti.com/product/tpd1e10b06#samples; Alternate Manufacturer: Texas Instruments
footprint DPY0002A (R-PX2SON-N2)
pins: 1, 2

## UB5C-500RF1
designator R?  value 500  (hidden comment: UB5C-500RF1)
RES 500 OHM 5W 1% AXIAL 5.5mm x 12.7mm; Manufacturer: Riedon; CompType: Resistor; Value_Code: 500R; Tolerance_%: 1; Power_W: 5; VDC_V: 194; TempCo: 20 ppm/C; U/M: EA; SymbolVersion: 2009-05-29; PartNumber: UB5C-500RF1; PackageReference: UB-5C; RoHS: Y; Res_ohm: 500; Value1: 1%; Value2: 5W; MountType: TH; Technology: Thick Film; Published: 2008-06-26; Publisher: Texas Instruments; LatestRevisionDate: 2013-01-08; ComponentLink1Description: Datasheet link; ComponentLink1URL: http://riedon.com/media/pdf/UB.pdf; Supplier 1: Digi-Key; Supplier Part Number 1: 696-1088-ND
signal-integrity model Resistor
simulation model Resistor
footprint RES TH UB-5C
pins: 1, 2

## WSLP5931L5000FEB
designator R?  ValueDisplayed: 500µ  (hidden comment: WSLP5931L5000FEB)
RES SMD 500 µOHM 1% 10W 5931; Manufacturer: Vishay Dale; CompType: Resistor; Value: 500µ; Tolerance_%: 1; Power_W: 10; VDC_V: 200; TempCo: 200 ppm/C; EIA_Code: 481; U/M: EA; Res_Ohm: .0005; SymbolVersion: 2009-05-29; PartNumber: WSLP5931L5000FEB; PackageReference: WSLP; RoHS: Y; Value1: 1%; Value2: 10W; MountType: SMD; Technology: Thick Film; LatestRevisionDate: 2015-04-13; ComponentLink1Description: Datasheet link; ComponentLink1URL: http://www.vishay.com/docs/30176/wslp3921.pdf; Supplier 1: Digi-Key; Supplier Part Number 1: WSLPD-.0005CT-ND; Published: 2008-06-26; Value_Code: 500µ
signal-integrity model Resistor
simulation model Resistor
footprint WSLP5931 (Current Sensing Resistor)
pins: 1, 2

## ZXMP10A13FTA
designator Q?  value -100V  (hidden comment: ZXMP10A13FTA)
MOSFET, P-CH, -100V, -0.6A, SOT-23; Manufacturer: Diodes Inc.; Alternate Manufacturer: None; U/M: EA; ChType: P; VdsMax_V: -100; Value1: 1 ohm; Rdson45_Ohm: 1; Value2: 3.5 nC; QgTyp_nC: 3.5; Vgs_V: -4; IdsMax_A: -0.6; SymbolVersion: 2008-07-09; PartNumber: ZXMP10A13FTA; PackageReference: SOT-23; CompType: MOSFET; RoHS: Y; MountType: SMT; Published: 2008-06-19; Publisher: Texas Instruments; LatestRevisionDate: 2013-10-21; LatestRevisionNote: Added parts.; ComponentLink1Description: Datasheet link; ComponentLink1URL: http://www.diodes.com/datasheets/ZXMP10A13F.pdf; Supplier 1: Digi-Key; Supplier Part Number 1: ZXMP10A13FCT-ND; Supplier 2: Mouser; Supplier Part Number 2: 522-ZXMP10A13FTA; Supplier 3: Farnell; Supplier Part Number 3: 1843777
footprint SOT-23
footprint SOT-23M
footprint SOT-23L
pins: 1 G, 2 S, 3 D

## ZXTN19100CZTA, Diodes Inc.
designator Q?, comment ZXTN19100CZTA  (value not drawn)
Transistor, NPN, 100 V, 5.25 A, SOT-89; Manufacturer: Diodes Inc.; SymbolCreator: a0412235; PNP: 0; NPN: 1; Vceo_V: 100; Vcesat1_V: 0.21; Value: 100 V; IcRated_A: 5.25; Value1: 5.25 A; HfeMax: 500; TaMin_C: -55; TaMax_C: 150; CompType: BJT; U/M: EA; AEC Category: Q101; SymbolVersion: 2009-09-01; PartNumber: ZXTN19100CZTA; PackageReference: SOT-89; RoHS: Y; Value2: 500; Published: 2008-07-31; LatestRevisionDate: 2016-02-25; Publisher: Texas Instruments; ComponentLink1Description: Datasheet link; ComponentLink1URL: http://www.diodes.com/datasheets/ZXTN19100CZ.pdf; Supplier 1: Digi-Key; Supplier Part Number 1: ZXTN19100CZCT-ND; Supplier 2: Mouser; Supplier Part Number 2: 621-ZXTN19100CZTA; MountType: SMT; AEC Qualified: ?
footprint SOT-89-3
pins: 1 B, 2 C, 3 E, 4 C
text: 2,4